# EAGLE library part COLUMN21 (library expboard)
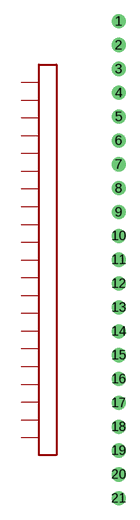
[diagram p6: symbol with the pads of COLUMN21SIMPLE; footprint COLUMN21SIMPLE]

Designator prefix -

## COLUMN21  [COLUMN21SIMPLE]
1  1
2  2
3  3
4  4
5  5
6  6
7  7
8  8
9  9
10  10
11  11
12  12
13  13
14  14
15  15
16  16
17  17
18  18
19  19
20  20
21  21

## Footprint COLUMN21SIMPLE (pad centres in mm)
drill 1 round: 1 0,25.4; 2 0,22.86; 3 0,20.32; 4 0,17.78; 5 0,15.24; 6 0,12.7; 7 0,10.16; 8 0,7.62; 9 0,5.08; 10 0,2.54; 11 0,0; 12 0,-2.54; 13 0,-5.08; 14 0,-7.62; 15 0,-10.16; 16 0,-12.7; 17 0,-15.24; 18 0,-17.78; 19 0,-20.32; 20 0,-22.86; 21 0,-25.4